# EAGLE library part ADM2482 (library 000001)
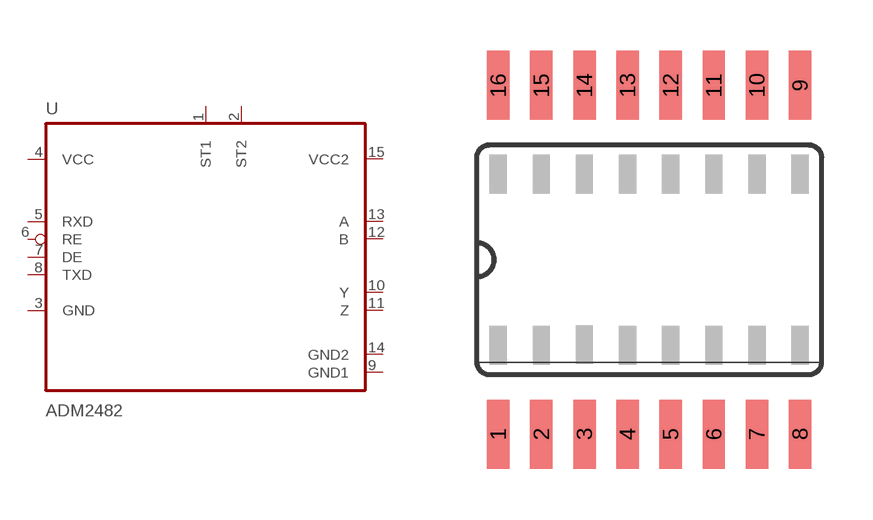
[diagram p80: symbol with the pads of SO16; footprint SO16]

Designator prefix -

## ADM2482E  [SO16]
1  ST1
2  ST2
3  GND  pwr
4  VCC  pwr
5  RXD
6  RE  in
7  DE
8  TXD
9  GND1  pwr
10  Y
11  Z
12  B
13  A
14  GND2  pwr
15  VCC2  pwr

## Footprint SO16 (pad centres in mm)
Small Outline Package .150 SIOC Source: http://www.maxim-ic.com/package_drawings/21-0041B.pdf
smd 0.66 x 2.032: 1 -4.445,-5.137; 2 -3.175,-5.137; 3 -1.905,-5.137; 4 -0.635,-5.137; 5 0.635,-5.137; 6 1.905,-5.137; 7 3.175,-5.137; 8 4.445,-5.137; 9 4.445,5.137; 10 3.175,5.137; 11 1.905,5.137; 12 0.635,5.137; 13 -0.635,5.137; 14 -1.905,5.137; 15 -3.175,5.137; 16 -4.445,5.137